# Altium footprint library SOP-8_L4.9-W3.9-P1.27-LS6.0-BL_2022-06-12.PcbLib: 1 footprints
Each footprint in its own frame and in the unit in brackets; x right, y up, seen from the top. Pads: shape width x height; smd on the part's side, far side on the other; paste and mask are expansions set on the pad; w line width, h text height; cw(c..) or ccw(c..) is an arc to the next point about the centre after c.
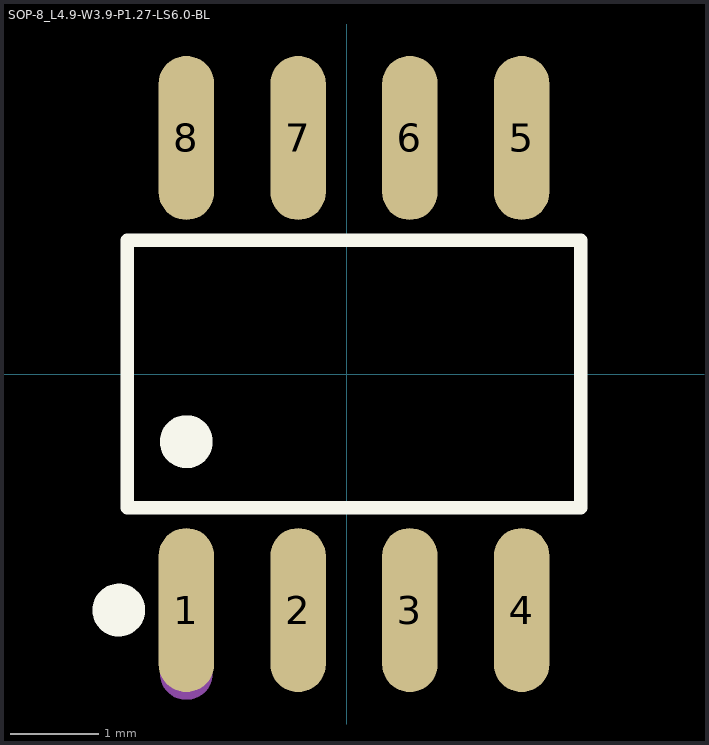
[diagram p0: the footprint, top view; thin cyan lines are the x and y axes]

## SOP-8_L4.9-W3.9-P1.27-LS6.0-BL [mm]
pads (8):
  oval 0.63x1.865 smd: 1(-1.82,-2.682) 2(-0.55,-2.682) 3(0.72,-2.682) 4(1.99,-2.682) 5(1.99,2.682) 6(0.72,2.682) 7(-0.55,2.682) 8(-1.82,2.682)
Top Overlay:
  circle w0.3: c-2.587,-2.682 r0.15
  circle w0.3: c-1.82,-0.769 r0.15
  lines w0.152: -2.491,-1.521 2.661,-1.521 2.661,1.521 -2.491,1.521 -2.491,-1.521
Mechanical 15:
  circle w0.3: c-1.82,-3.4 r0.15